# EAGLE library part ADP7159ARDZ-04-R7 (library IC, Linear Regulator thermal pad- ADP7159)
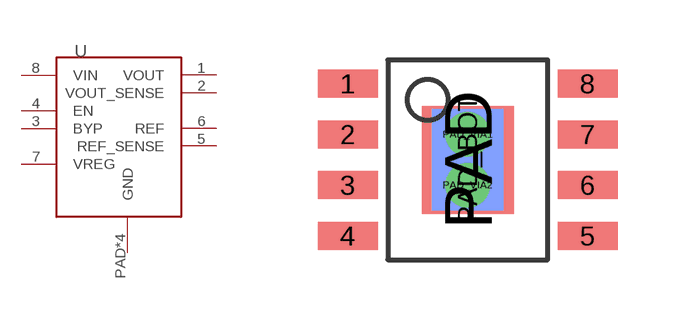
[diagram p0: symbol with the pads of 8-SOIC-EP; footprint 8-SOIC-EP]

Designator prefix -

## ADP7159ARDZ-04-R7  [8-SOIC-EP]
1  VOUT
2  VOUT_SENSE
3  BYP
4  EN
5  REF_SENSE
6  REF
7  VREG
8  VIN
PAD  GND
PAD_BOT  GND
PAD_VIA1  GND
PAD_VIA2  GND

## Footprint 8-SOIC-EP (pad centres in mm)
smd 1.5 x 0.7: 1 -3,1.905; 2 -3,0.635; 3 -3,-0.635; 4 -3,-1.905; 5 3,-1.905; 6 3,-0.635; 7 3,0.635; 8 3,1.905
smd 2.3 x 2.7: PAD 0,0
smd 1.778 x 2.54 bottom: PAD_BOT 0,0
drill 0.6: PAD_VIA1 0,0.635; PAD_VIA2 0,-0.635